# EAGLE library part XBEE (library CC1310F128RGZT)
XBee (TM) /XBee-PRO(TM) OEM RF Modules Source: MaxStream, Inc. xbee_productmanual.pdf
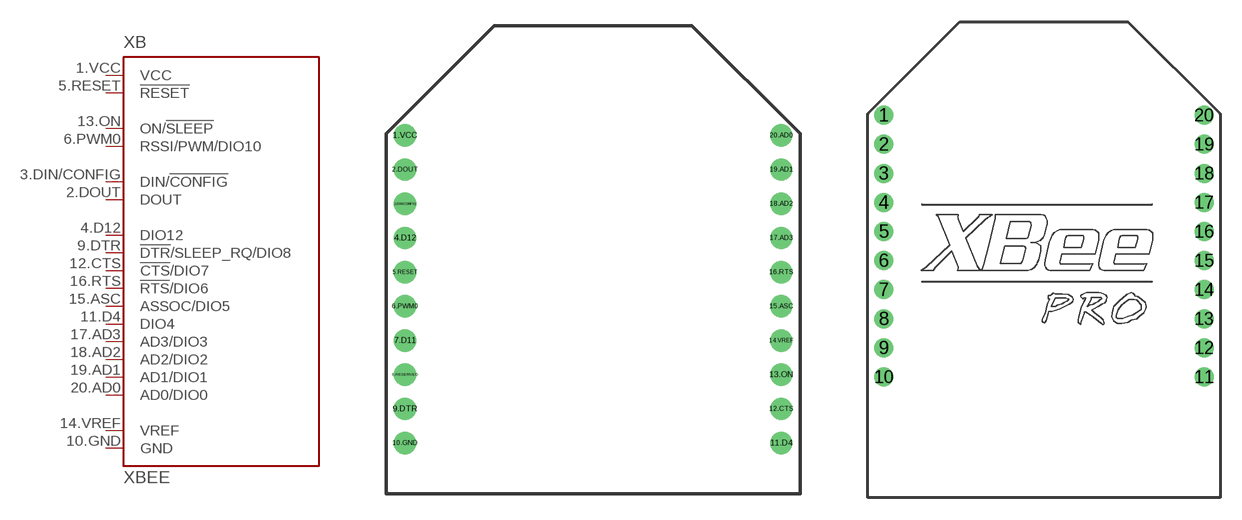
[diagram p7: symbol with the pads of XBEE; footprints XBEE, XBEE-PRO]

Designator prefix XB

## XBEE (MPN: XBP24-Z7UIT-004; OC_FARNELL: 1751799; OC_NEWARK: 34R5507)  [XBEE]
1.VCC  VCC  pwr
2.DOUT  DOUT  out
3.DIN/CONFIG  DIN/!CONFIG  in
4.D12  DIO12
5.RESET  !RESET  in
6.PWM0  RSSI/PWM/DIO10  out
9.DTR  !DTR!/SLEEP_RQ/DIO8
10.GND  GND  pwr
11.D4  DIO4
12.CTS  !CTS!/DIO7
13.ON  ON/!SLEEP  out
14.VREF  VREF  in
15.ASC  ASSOC/DIO5
16.RTS  !RTS!/DIO6
17.AD3  AD3/DIO3
18.AD2  AD2/DIO2
19.AD1  AD1/DIO1
20.AD0  AD0/DIO0

## XBEE-PRO (MPN: XBP24-AWI-001; OC_FARNELL: 1337916; OC_NEWARK: 42M2667)  [XBEE-PRO]
1  VCC  pwr
2  DOUT  out
3  DIN/!CONFIG  in
4  DIO12
5  !RESET  in
6  RSSI/PWM/DIO10  out
9  !DTR!/SLEEP_RQ/DIO8
10  GND  pwr
11  DIO4
12  !CTS!/DIO7
13  ON/!SLEEP  out
14  VREF  in
15  ASSOC/DIO5
16  !RTS!/DIO6
17  AD3/DIO3
18  AD2/DIO2
19  AD1/DIO1
20  AD0/DIO0

## Footprint XBEE (pad centres in mm)
XBEE Source: http://www.maxstream.net/products/xbee/datasheet_XBee_OEM_RF-Modules.pdf
drill 0.8 pad 1.27: 1.VCC -11,9; 2.DOUT -11,7; 3.DIN/CONFIG -11,5; 4.D12 -11,3; 5.RESET -11,1; 6.PWM0 -11,-1; 7.D11 -11,-3; 8.RESERVED -11,-5; 9.DTR -11,-7; 10.GND -11,-9; 11.D4 11,-9; 12.CTS 11,-7; 13.ON 11,-5; 14.VREF 11,-3; 15.ASC 11,-1; 16.RTS 11,1; 17.AD3 11,3; 18.AD2 11,5; 19.AD1 11,7; 20.AD0 11,9

## Footprint XBEE-PRO (pad centres in mm)
XBEE Pro Source: http://www.maxstream.net/products/xbee/datasheet_XBee_OEM_RF-Modules.pdf
drill 0.8 pad 1.27: 1 -11,9; 2 -11,7; 3 -11,5; 4 -11,3; 5 -11,1; 6 -11,-1; 7 -11,-3; 8 -11,-5; 9 -11,-7; 10 -11,-9; 11 11,-9; 12 11,-7; 13 11,-5; 14 11,-3; 15 11,-1; 16 11,1; 17 11,3; 18 11,5; 19 11,7; 20 11,9